# Altium footprint library PcbLib1.PcbLib: 11 footprints
Each footprint in its own frame and in the unit in brackets; x right, y up, seen from the top. Pads: shape width x height; smd on the part's side, far side on the other; paste and mask are expansions set on the pad; w line width, h text height; cw(c..) or ccw(c..) is an arc to the next point about the centre after c.
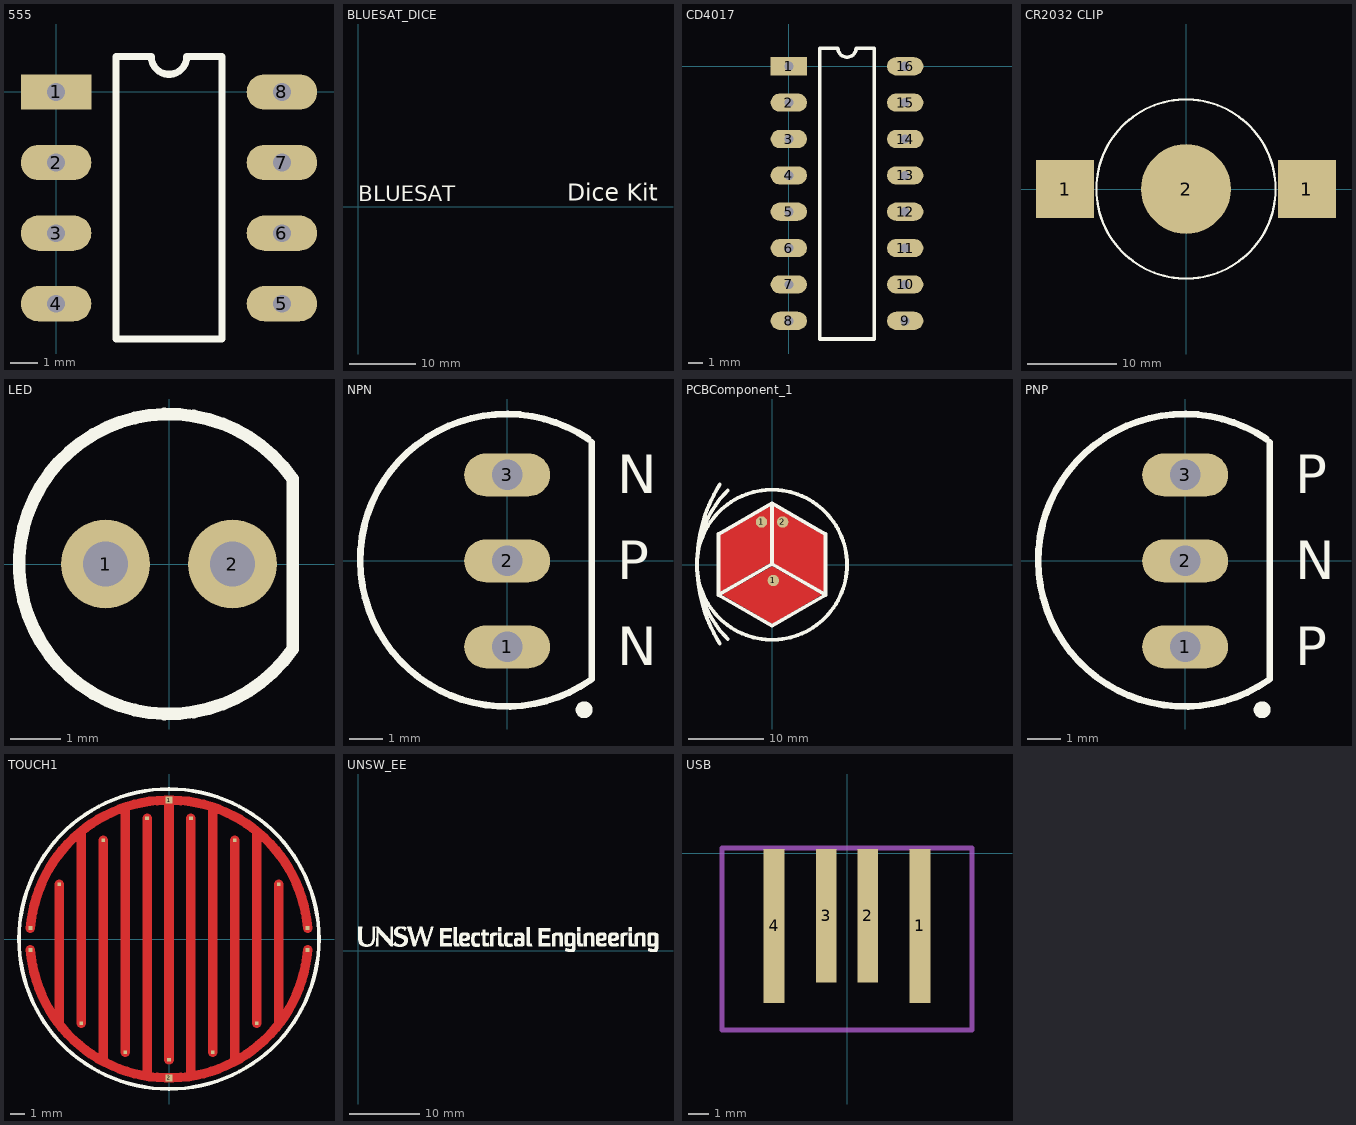
[diagram p0: the footprints below, top view; thin cyan lines are the x and y axes]

## 555 [mil]
pads (8):
  rect 100x50 hole 25: 1(0,0)
  oval 100x50 hole 25: 2(0,-100) 3(0,-200) 4(0,-300) 5(320,-300) 6(320,-200) 7(320,-100) 8(320,0)
Top Overlay:
  lines w10: 85,-350 85,50 135,50 ccw(c160,50) 185,50 235,50 235,-350 85,-350

## BLUESAT_DICE [mil]
Top Overlay:
  text "BLUESAT" at 0,0 h157.48
  text "Dice Kit" at 1240.16,0 h173.23

## CD4017 [mil]
pads (16):
  rect 100x50 hole 25: 1(0,0)
  oval 100x50 hole 25: 2(0,-100) 3(0,-200) 4(0,-300) 5(0,-400) 6(0,-500) 7(0,-600) 8(0,-700) 9(320,-700) 10(320,-600) 11(320,-500) 12(320,-400) 13(320,-300) 14(320,-200) 15(320,-100) 16(320,0)
Top Overlay:
  lines w10: 85,-750 85,50 135,50 ccw(c160,50) 185,50 235,50 235,-750 85,-750

## CR2032 CLIP [mm]
pads (3):
  rect 6.5x6.5 smd: 1(-13.5,0) 1(13.5,0)
  round 10 smd: 2(0,0)
Top Overlay:
  circle w0.254: c0,0 r10

## LED [mil]
pads (2):
  round 70 hole 35.43: 1(-50,0) 2(50,0)
Top Overlay:
  lines w10: 96.8,-67.78 cw(c0,0) 96.8,67.78 ; 97.44,-66.93 97.44,66.93

## NPN [mm]
pads (3):
  oval 2.54x1.27 hole 0.9: 1(0,-2.54) 2(0,0) 3(0,2.54)
Top Overlay:
  circle w0.25: c2.275,-4.4 r0.125
  lines w0.2: 2.4,3.6 ccw(c-0.02,0.018) 2.457,-3.524 ; 2.5,-3.5 2.5,3.5
  text "N" at 3.25,2 h1.14
  text "P" at 3.25,-0.54 h1.14
  text "N" at 3.25,-3.08 h1.14
Mechanical 15:
  lines w0.1: -0.5,0 0.5,0 ; 0,-0.5 0,0.5

## PCBComponent_1 [mil]
pads (3):
  round 60 smd: 1(-55.12,224.41) 1(6.89,-82.68) 2(56.1,224.41)
Top Layer:
  region: -9.84,306.1 -9.84,9.84 -270.67,-140.75 -270.67,155.51
  region: 9.84,306.1 270.67,155.51 270.67,-141.73 9.84,8.86
  region: -261.81,-158.46 0,-6.89 261.81,-158.46 0,-309.06
Top Overlay:
  circle w19.68: c0,0 r393.7
  lines w19.68: -280.79,-158.18 0,3.94 280.51,-158.02 280.51,160.88 0,322.83 -280.51,160.88 -280.51,-158.46 0.73,-320.85 ; -274.02,-413.39 cw(c393.7,3.93) -274.02,421.25 ; -232.26,-389.74 cw(c157.48,0) -232.26,389.74 ; -0.28,-320.58 280.51,-158.46 ; 0,1.97 0,314.96
Top Solder:
  region: -9.84,306.1 -9.84,9.84 -270.67,-140.75 -270.67,155.51
  region: 9.84,306.1 270.67,155.51 270.67,-141.73 9.84,8.86
  region: -261.81,-158.46 0,-6.89 261.81,-158.46 0,-309.06

## PNP [mm]
pads (3):
  oval 2.54x1.27 hole 0.9: 1(0,-2.54) 2(0,0) 3(0,2.54)
Top Overlay:
  circle w0.25: c2.275,-4.4 r0.125
  lines w0.2: 2.4,3.6 ccw(c-0.02,0.018) 2.457,-3.524 ; 2.5,-3.5 2.5,3.5
  text "P" at 3.25,-3.08 h1.14
  text "N" at 3.25,-0.54 h1.14
  text "P" at 3.25,2 h1.14
Mechanical 15:
  lines w0.1: -0.5,0 0.5,0 ; 0,-0.5 0,0.5

## TOUCH1 [mm]
pads (17):
  rect 0.25x0.25 smd mask+0: 1(-9.471,0.748) 1(-6,-5.75) 1(-3,-7.75) 1(0,-8.25) 1(3,-7.75) 1(6,-5.75) 1(9.471,0.748) 2(-9.471,-0.748) 2(-7.5,3.75) 2(-4.5,6.75) 2(-1.5,8.25) 2(1.5,8.25) 2(4.5,6.75) 2(7.5,3.75) 2(9.471,-0.748)
  rect 0.5x0.5 smd mask+0: 1(0,9.5) 2(0,-9.5)
Top Layer:
  lines w0.65: -9.471,-0.748 ccw(c0,0) 9.471,-0.748 ; -9.471,0.748 cw(c0,0) 9.471,0.748 ; -7.5,-5.7 -7.5,3.75 ; -6,-5.75 -6,7.2 ; -4.5,-8.2 -4.5,6.75 ; -3,-7.75 -3,8.8 ; -1.5,-9.2 -1.5,8.25 ; 0,-8.25 0,9.2 ; 1.5,-9.2 1.5,8.25 ; 3,-7.75 3,8.9 ; 4.5,-8.2 4.5,6.75 ; 6,-5.75 6,7.2 ; 7.5,-5.75 7.5,3.75
Top Overlay:
  circle w0.254: c0,0 r10.253
Top Solder:
  lines w0.75: -9.471,-0.748 ccw(c0,0) 9.471,-0.748 ; -9.471,0.748 cw(c0,0) 9.471,0.748 ; -7.5,-5.7 -7.5,3.75 ; -6,-5.75 -6,7.2 ; -4.5,-8.2 -4.5,6.75 ; -3,-7.75 -3,8.8 ; -1.5,-9.2 -1.5,8.25 ; 0,-8.25 0,9.2 ; 1.5,-9.2 1.5,8.25 ; 3,-7.75 3,8.9 ; 4.5,-8.2 4.5,6.75 ; 6,-5.75 6,7.2 ; 7.5,-5.75 7.5,3.75

## UNSW_EE [mil]
Top Overlay:
  drawing of 3362 lines, arcs and shapes, not listed

## USB [mm]
pads (4):
  rect 1x7.41 smd: 1(3.5,-3.5) 4(-3.5,-3.5)
  rect 1x6.41 smd: 2(1,-3) 3(-1,-3)
Mechanical 1:
  lines w0.254: -6,-8.5 6,-8.5 6,0.25 -6,0.25 -6,-8.5